# EAGLE library part 1554АП6 (library std-logic-1554series)
АЕЯР.431200.182-05 ТУ 1554АП6 - Восьмиканальный двунаправленный приемо-передатчик с тремя состояниями на выходе. Изготовитель: ОАО "ИНТЕГРАЛ", г. Минск, р. Беларусь. Технические условия (ТБМ): АЕЯР.431200.182-05 ТУ Технические условия (не ТБМ): АЕЯР.431200.093-05 ТУ
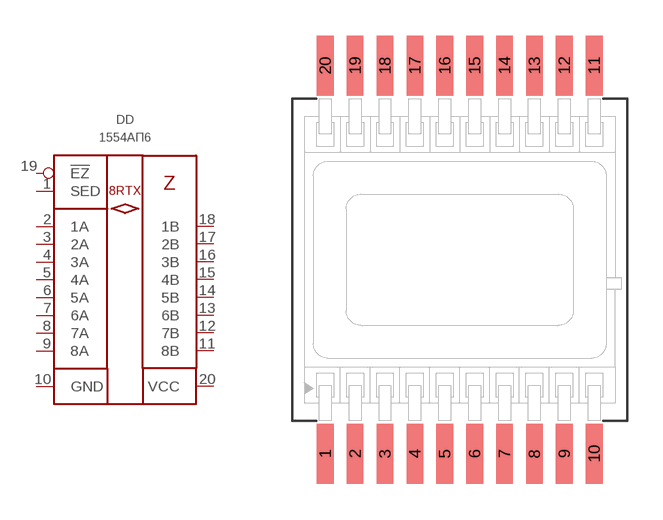
[diagram p24: symbol with the pads of 4153.20-6; footprint 4153.20-6]

Designator prefix DD

## 1554АП6ТБМ  [4153.20-6]
1  SED  in
2  1A
3  2A
4  3A
5  4A
6  5A
7  6A
8  7A
9  8A
10  GND  pwr
11  8B
12  7B
13  6B
14  5B
15  4B
16  3B
17  2B
18  1B
19  !EZ  in
20  VCC  pwr

## Footprint 4153.20-6 (pad centres in mm)
smd 0.7 x 2.5: 1 -5.625,-8.125; 2 -4.375,-8.125; 3 -3.125,-8.125; 4 -1.875,-8.125; 5 -0.625,-8.125; 6 0.625,-8.125; 7 1.875,-8.125; 8 3.125,-8.125; 9 4.375,-8.125; 10 5.625,-8.125; 11 5.625,8.125; 12 4.375,8.125; 13 3.125,8.125; 14 1.875,8.125; 15 0.625,8.125; 16 -0.625,8.125; 17 -1.875,8.125; 18 -3.125,8.125; 19 -4.375,8.125; 20 -5.625,8.125